# EAGLE library part AD9951 (library FreeSmartEEG)
14-bit DAC Direct Digital Synthesizer 400 MSPS 14-Bit, 1.8 V CMOS Source: http://www.analog.com/static/imported-files/data_sheets/AD9951.pdf
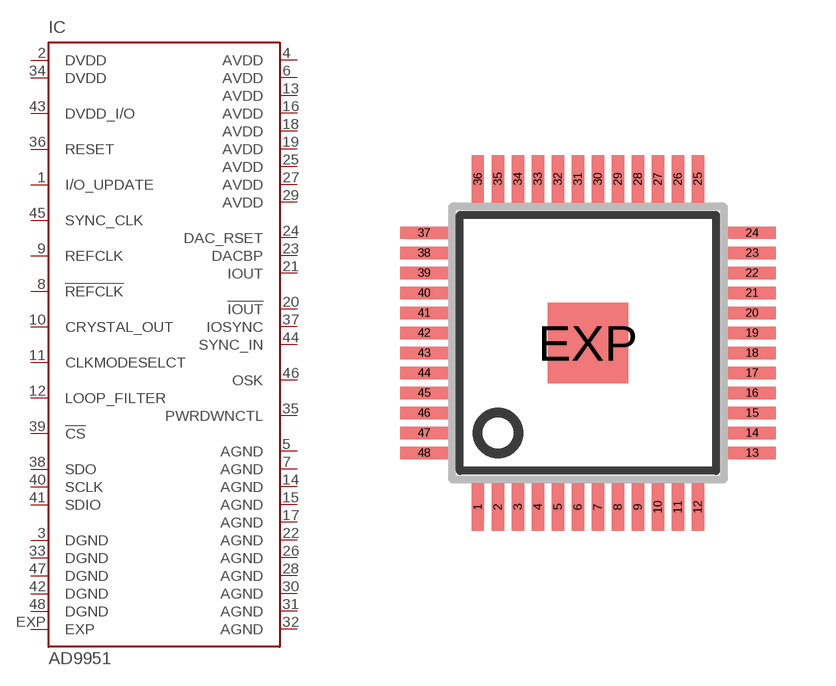
[diagram p56: symbol with the pads of QFP-7X7-48; footprint QFP-7X7-48]

Designator prefix IC

## AD9951EP (MPN: AD9951YSVZ; OC_FARNELL: 8398445; OC_NEWARK: 19M1019)  [QFP-7X7-48]
1  I/O_UPDATE  in
2  DVDD  pwr
3  DGND  pwr
4  AVDD  pwr
5  AGND  pwr
6  AVDD  pwr
7  AGND  pwr
8  !REFCLK  in
9  REFCLK  in
10  CRYSTAL_OUT  out
11  CLKMODESELCT  in
12  LOOP_FILTER  in
13  AVDD  pwr
14  AGND  pwr
15  AGND  pwr
16  AVDD  pwr
17  AGND  pwr
18  AVDD  pwr
19  AVDD  pwr
20  !IOUT  out
21  IOUT  out
22  AGND  pwr
23  DACBP  in
24  DAC_RSET  in
25  AVDD  pwr
26  AGND  pwr
27  AVDD  pwr
28  AGND  pwr
29  AVDD  pwr
30  AGND  pwr
31  AGND  pwr
32  AGND  pwr
33  DGND  pwr
34  DVDD  pwr
35  PWRDWNCTL  in
36  RESET  in
37  IOSYNC  in
38  SDO  in
39  !CS  in
40  SCLK  in
41  SDIO
42  DGND  pwr
43  DVDD_I/O  pwr
44  SYNC_IN  in
45  SYNC_CLK  out
46  OSK  in
47  DGND  pwr
48  DGND  pwr
EXP  EXP  pas

## Footprint QFP-7X7-48 (pad centres in mm)
TQFP48 7x7 Thin Plastic Quad Flat Package, Exposed Pad, TQFP/EP Source: www.analog.com/UploadedFiles/Data_Sheets/33830397585263AD9859_0.pdf
smd 0.3 x 1.2: 1 -2.75,-4.1; 2 -2.25,-4.1; 3 -1.75,-4.1; 4 -1.25,-4.1; 5 -0.75,-4.1; 6 -0.25,-4.1; 7 0.25,-4.1; 8 0.75,-4.1; 9 1.25,-4.1; 10 1.75,-4.1; 11 2.25,-4.1; 12 2.75,-4.1; 25 2.75,4.1; 26 2.25,4.1; 27 1.75,4.1; 28 1.25,4.1; 29 0.75,4.1; 30 0.25,4.1; 31 -0.25,4.1; 32 -0.75,4.1; 33 -1.25,4.1; 34 -1.75,4.1; 35 -2.25,4.1; 36 -2.75,4.1
smd 1.2 x 0.3: 13 4.1,-2.75; 14 4.1,-2.25; 15 4.1,-1.75; 16 4.1,-1.25; 17 4.1,-0.75; 18 4.1,-0.25; 19 4.1,0.25; 20 4.1,0.75; 21 4.1,1.25; 22 4.1,1.75; 23 4.1,2.25; 24 4.1,2.75; 37 -4.1,2.75; 38 -4.1,2.25; 39 -4.1,1.75; 40 -4.1,1.25; 41 -4.1,0.75; 42 -4.1,0.25; 43 -4.1,-0.25; 44 -4.1,-0.75; 45 -4.1,-1.25; 46 -4.1,-1.75; 47 -4.1,-2.25; 48 -4.1,-2.75
smd 2 x 2: EXP 0,0